# Altium schematic symbol library Base Board.SCHLIB: 27 symbols
Pins are listed as number, name and electrical type; pins without a type are passive.

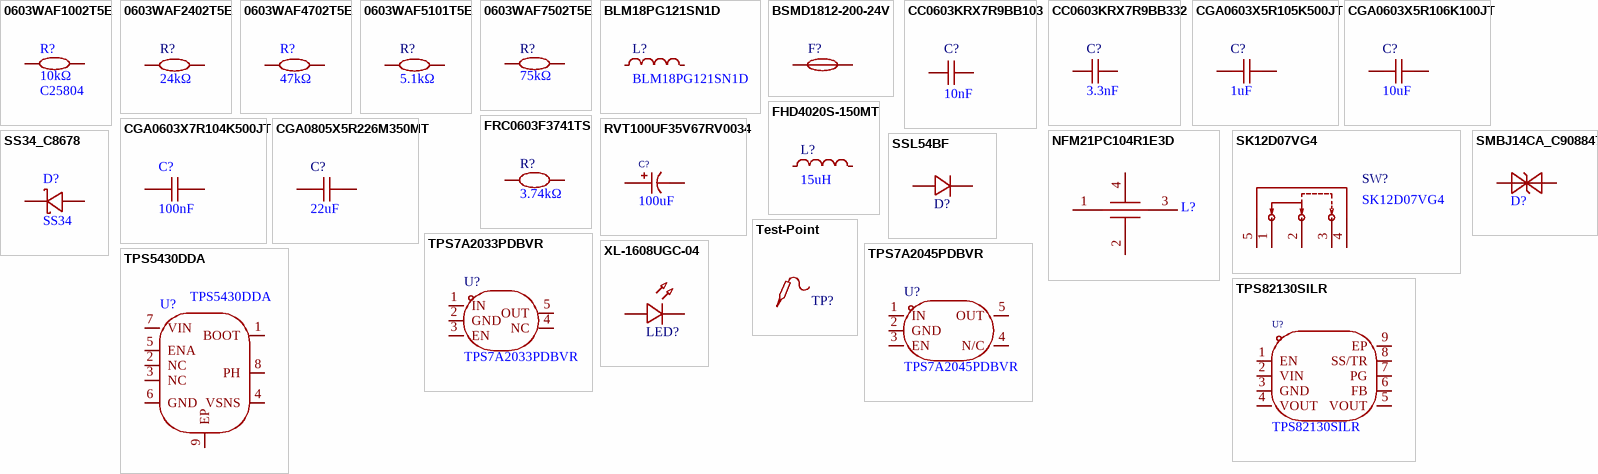
[diagram p0: symbols 0603WAF1002T5E to XL-1608UGC-04]

## 0603WAF1002T5E
designator R?, comment 10kΩ  Supplier Part: C25804
Manufacturer: UNI-ROYAL(厚声); Symbol: 电阻; Device: 0603WAF1002T5E; Add into BOM: yes; Tolerance: ±1%; Power(Watts): 100mW; Temperature Coefficient: ±100ppm/℃; Overload Voltage (Max): 75V; LCSC Part Name: 厚膜电阻 10kΩ ±1% 100mW; Manufacturer Part: 0603WAF1002T5E; Supplier Footprint: 0603; JLCPCB Part Class: Basic Part; Datasheet: https://atta.szlcsc.com/upload/public/pdf/source/20200306/C422600_1E6D84923E4A46A82E41ADD87F860B5C.pdf; Supplier: LCSC; Convert to PCB: yes; Type: 厚膜电阻; Value: 10kΩ; Operating Temperature Range: -55℃~+155℃
footprint R0603
3D model R0603
pins: 1, 2

## 0603WAF2402T5E
designator R?, comment 24kΩ
Manufacturer: UNI-ROYAL(厚声); Symbol: 0603WAF2402T5E; Add into BOM: yes; Tolerance: ±1%; Power(Watts): 100mW; Overload Voltage (Max): 75V; Temperature Coefficient: ±100ppm/℃; Device: 0603WAF2402T5E; Supplier: LCSC; Manufacturer Part: 0603WAF2402T5E; Supplier Part: C23352; Value: 24kΩ; JLCPCB Part Class: 基础库; LCSC Part Name: 24kΩ ±1% 100mW 厚膜电阻; Supplier Footprint: 0603; Datasheet: https://atta.szlcsc.com/upload/public/pdf/source/20200306/C422600_1E6D84923E4A46A82E41ADD87F860B5C.pdf; Convert to PCB: yes; Type: 厚膜电阻; Operating Temperature Range: -55℃~+155℃
footprint R0603
3D model R0603
pins: 1, 2

## 0603WAF4702T5E
designator R?, comment 47kΩ
Manufacturer: UNI-ROYAL(厚声); Symbol: 电阻; Device: 0603WAF4702T5E; Add into BOM: yes; Tolerance: ±1%; Power(Watts): 100mW; Overload Voltage (Max): 75V; Temperature Coefficient: ±100ppm/℃; LCSC Part Name: 47kΩ ±1% 100mW 厚膜电阻; Supplier Part: C25819; Manufacturer Part: 0603WAF4702T5E; Supplier Footprint: 0603; JLCPCB Part Class: Basic Part; Datasheet: https://atta.szlcsc.com/upload/public/pdf/source/20200306/C422600_1E6D84923E4A46A82E41ADD87F860B5C.pdf; Supplier: LCSC; Convert to PCB: yes; Type: 厚膜电阻; Value: 47kΩ; Operating Temperature Range: -55℃~+155℃
footprint R0603
3D model R0603
pins: 1, 2

## 0603WAF5101T5E
designator R?, comment 5.1kΩ
Manufacturer: UNI-ROYAL(厚声); Symbol: 0603WAF5101T5E; Add into BOM: yes; Tolerance: ±1%; Power(Watts): 100mW; Overload Voltage (Max): 75V; Temperature Coefficient: ±100ppm/℃; Device: 0603WAF5101T5E; LCSC Part Name: 5.1kΩ ±1% 100mW 厚膜电阻; Supplier Part: C23186; Manufacturer Part: 0603WAF5101T5E; Supplier Footprint: 0603; JLCPCB Part Class: 基础库; Datasheet: https://atta.szlcsc.com/upload/public/pdf/source/20200306/C422600_1E6D84923E4A46A82E41ADD87F860B5C.pdf; Supplier: LCSC; Convert to PCB: yes; Type: 厚膜电阻; Value: 5.1kΩ; Operating Temperature Range: -55℃~+155℃
footprint R0603
3D model R0603
pins: 1, 2

## 0603WAF7502T5E
designator R?, comment 75kΩ
Manufacturer: UNI-ROYAL(厚声); Symbol: 0603WAF7502T5E; Add into BOM: yes; Tolerance: ±1%; Power(Watts): 100mW; Overload Voltage (Max): 75V; Temperature Coefficient: ±100ppm/℃; Device: 0603WAF7502T5E; LCSC Part Name: 75kΩ ±1% 100mW 厚膜电阻; Supplier Part: C23242; Manufacturer Part: 0603WAF7502T5E; Supplier Footprint: 0603; JLCPCB Part Class: 基础库; Datasheet: https://atta.szlcsc.com/upload/public/pdf/source/20200306/C422600_1E6D84923E4A46A82E41ADD87F860B5C.pdf; Supplier: LCSC; Convert to PCB: yes; Type: 厚膜电阻; Value: 75kΩ; Operating Temperature Range: -55℃~+155℃
footprint R0603
3D model R0603
pins: 1, 2

## BLM18PG121SN1D
designator L?
Manufacturer: muRata(村田); Symbol: BLM18PG121SN1D_C14709; Add into BOM: yes; Impedance @ Frequency: 120Ω@100MHz; Tolerance: ±25%; DC Resistance: 50mΩ; Current Rating: 2A; Circuits: 1; Device: BLM18PG121SN1D; LCSC Part Name: 单路 0603磁珠 阻抗120Ω@100MHz; Supplier Part: C14709; Manufacturer Part: BLM18PG121SN1D; Supplier Footprint: 0603; JLCPCB Part Class: 扩展库; Datasheet: https://atta.szlcsc.com/upload/public/pdf/source/20130704/1457706621422.pdf; Supplier: LCSC; Convert to PCB: yes
footprint L0603
3D model L0603_L1.6-W0.8-H0.5_BEAD
pins: 1, 2

## BSMD1812-200-24V
designator F?  (value not drawn)
Manufacturer: BHFUSE(佰宏); Add into BOM: yes; Operating Voltage (Max): 24V; Current Rating (Max): 40A; Hold Current: 2A; Trip Current: 4A; Power Dissipation: 1W; Resistance - Initial (Ri) (Min): 20mΩ; Resistance - Post Trip (R1) (Max): 100mΩ; Maximum Time to Trip: 2s; Symbol: BSMD1812-200-24V; Device: BSMD1812-200-24V; Supplier: LCSC; Supplier Part: C883157; Manufacturer Part: BSMD1812-200-24V; JLCPCB Part Class: 扩展库; LCSC Part Name: 24V 2A 1812自恢复; Supplier Footprint: 1812; Datasheet: https://atta.szlcsc.com/upload/public/pdf/source/20230512/6ED7FF50F668B3AF958C55F12246A840.pdf; Convert to PCB: yes; Operating Temperature: -40℃~+85℃
footprint F1812
3D model F1812_L4.5-W3.2-H1.0
pins: 1, 2

## CC0603KRX7R9BB103
designator C?, comment 10nF
Manufacturer: YAGEO(国巨); Symbol: CC0603KRX7R9BB103; Add into BOM: yes; Tolerance: ±10%; Voltage Rated: 50V; Temperature Coefficient: X7R; Device: CC0603KRX7R9BB103; LCSC Part Name: 10nF ±10% 50V; Supplier Part: C100042; Manufacturer Part: CC0603KRX7R9BB103; Supplier Footprint: 0603; JLCPCB Part Class: Extended Part; Datasheet: https://atta.szlcsc.com/upload/public/pdf/source/20181008/C309510_22F155564471FAF6A489F7D68F34234E.pdf; Supplier: LCSC; Convert to PCB: yes; Value: 10nF
footprint C0603
3D model C0603_L1.6-W0.8-H0.8
pins: 1, 2

## CC0603KRX7R9BB332
designator C?, comment 3.3nF
Manufacturer: YAGEO(国巨); Symbol: CC0603KRX7R9BB332; Add into BOM: yes; Tolerance: ±10%; Voltage Rated: 50V; Temperature Coefficient: X7R; Device: CC0603KRX7R9BB332; LCSC Part Name: 3.3nF ±10% 50V; Supplier Part: C107088; Manufacturer Part: CC0603KRX7R9BB332; Supplier Footprint: 0603; JLCPCB Part Class: 扩展库; Datasheet: https://atta.szlcsc.com/upload/public/pdf/source/20180910/C282072_33301C7F631E79921B82A8DAC6BCC5B3.pdf; Supplier: LCSC; Convert to PCB: yes; Value: 3.3nF
footprint C0603
3D model C0603_L1.6-W0.8-H0.8
pins: 1, 2

## CGA0603X5R105K500JT
designator C?, comment 1uF
Manufacturer: HRE(芯声); Symbol: CGA0603X5R105K500JT; Add into BOM: yes; Tolerance: ±10%; Voltage Rated: 50V; Temperature Coefficient: X5R; Device: CGA0603X5R105K500JT; LCSC Part Name: 1uF ±10% 50V; Supplier Part: C6119852; Manufacturer Part: CGA0603X5R105K500JT; Supplier Footprint: 0603; JLCPCB Part Class: 扩展库; Supplier: LCSC; Convert to PCB: yes; Value: 1uF
footprint C0603
3D model C0603_L1.6-W0.8-H0.8
pins: 1, 2

## CGA0603X5R106K100JT
designator C?, comment 10uF
Manufacturer: HRE(芯声); Symbol: CGA0603X5R106K100JT; Add into BOM: yes; Tolerance: ±10%; Voltage Rating: 10V; Temperature Coefficient: X5R; Device: CGA0603X5R106K100JT; LCSC Part Name: 10uF ±10% 10V; Supplier Part: C6119842; Manufacturer Part: CGA0603X5R106K100JT; Supplier Footprint: 0603; JLCPCB Part Class: 扩展库; Supplier: LCSC; Convert to PCB: yes; Value: 10uF
footprint C0603
3D model C0603_L1.6-W0.8-H0.8
pins: 1, 2

## CGA0603X7R104K500JT
designator C?, comment 100nF
Manufacturer: HRE(芯声); Symbol: CapAcitance; Device: CGA0603X7R104K500JT; Add into BOM: yes; Tolerance: ±10%; Voltage Rated: 50V; Temperature Coefficient: X7R; LCSC Part Name: 100nF ±10% 50V; Supplier Part: C6119867; Manufacturer Part: CGA0603X7R104K500JT; Supplier Footprint: 0603; JLCPCB Part Class: Extended Part; Datasheet: https://atta.szlcsc.com/upload/public/pdf/source/20250103/C44077DA9E7B3EFAE02F22B6D3D1CBC9.pdf; Supplier: LCSC; Convert to PCB: yes; Value: 100nF; Voltage Rating: 50V
footprint C0603
3D model C0603_L1.6-W0.8-H0.8
pins: 1, 2

## CGA0805X5R226M350MT
designator C?, comment 22uF
Manufacturer: HRE(芯声); Symbol: CGA0805X5R226M350MT; Add into BOM: yes; Tolerance: ±20%; Voltage Rated: 35V; Temperature Coefficient: X5R; Device: CGA0805X5R226M350MT; LCSC Part Name: 22uF ±20% 35V; Supplier Part: C6119901; Manufacturer Part: CGA0805X5R226M350MT; Supplier Footprint: 0805; JLCPCB Part Class: 扩展库; Datasheet: https://atta.szlcsc.com/upload/public/pdf/source/20231129/D589D0CC4D260F7AC3A77E53B455CCB3.pdf; Supplier: LCSC; Convert to PCB: yes; Value: 22uF
footprint C0805
3D model C0805_L2.0-W1.3-H1.3
pins: 1, 2

## FHD4020S-150MT
designator L?, comment 15uH
Manufacturer: cjiang(长江微电); Symbol: FHD4020S-150MT; Add into BOM: yes; Tolerance: ±20%; Current Rating: 1.2A; Current - Saturation(Isat): 2.8A; DC Resistance(DCR): 305mΩ; Type: 绕线电感; Device: FHD4020S-150MT; LCSC Part Name: 15uH ±20% 2.8A; Supplier Part: C602033; Manufacturer Part: FHD4020S-150MT; Supplier Footprint: SMD,4x4mm; JLCPCB Part Class: 扩展库; Datasheet: https://atta.szlcsc.com/upload/public/pdf/source/20200609/C601990_BCEA243EC4DA0A9A288AA78A6DFB48A5.pdf; Supplier: LCSC; Convert to PCB: yes; Value: 15uH
footprint IND-SMD_L4.0-W4.0
3D model IND-SMD_L4.0-W4.0-H1.9
pins: 1, 2

## FRC0603F3741TS
designator R?, comment 3.74kΩ
Manufacturer: FOJAN(富捷); Symbol: FRC0603F3741TS; Add into BOM: yes; Tolerance: ±1%; Power(Watts): 100mW; Overload Voltage (Max): 75V; Temperature Coefficient: ±100ppm/℃; Device: FRC0603F3741TS; LCSC Part Name: 3.74kΩ ±1% 100mW 厚膜电阻; Supplier Part: C2933210; Manufacturer Part: FRC0603F3741TS; Supplier Footprint: 0603; JLCPCB Part Class: 扩展库; Datasheet: https://atta.szlcsc.com/upload/public/pdf/source/20211221/925EC7D7225764EE0046F22065062C87.pdf; Supplier: LCSC; Convert to PCB: yes; Type: 厚膜电阻; Value: 3.74kΩ; Operating Temperature Range: -55℃~+155℃
footprint R0603
3D model R0603
pins: 1, 2

## NFM21PC104R1E3D
designator L?  (value not drawn)
Manufacturer: muRata(村田); Add into BOM: yes; Nominal Capacitance: 100nF; CapacitanceTolerance: ±20%; DC Rated Voltage: 25V; Rated Current: 2A; DC Resistance: 30mΩ; Symbol: NFM21PC104R1E3D; Device: NFM21PC104R1E3D; LCSC Part Name: 100nF(104) ±20% 25V; Supplier Part: C86150; Manufacturer Part: NFM21PC104R1E3D; Supplier Footprint: 0805; JLCPCB Part Class: 扩展库; Datasheet: https://atta.szlcsc.com/upload/public/pdf/source/20180326/C86150_E4B7366323682FA84DED9003C68CA797.pdf; Supplier: LCSC; Convert to PCB: yes; Operating Temperature: -55℃~+125℃
footprint CAP-SMD_4P-L2.0-W1.25
3D model CAP-SMD_4P-L2.0-W1.3-H0.9
pins: 1 IN, 2 GND, 3 OUT, 4 GND

## RVT100UF35V67RV0034
designator C?, comment 100uF
Manufacturer: KNSCHA(科尼盛); Symbol: RVT100UF35V67RV0034; Add into BOM: yes; Rated Voltage: 35V; Lifetime @ Temp: 2000hrs@105℃; Device: RVT100UF35V67RV0034; Supplier: LCSC; Supplier Part: C2836442; Manufacturer Part: RVT100UF35V67RV0034; Capacitance: 100uF; LCSC Part Name: 100uF 35V; Supplier Footprint: SMD,6.3x7.7mm; Convert to PCB: yes; Value: 100uF; φD: -; L: -; Ripple Current: -; Equivalent Series Resistance(ESR): -
footprint CAP-SMD_BD6.3-L6.6-W6.6-LS7.4-FD
3D model CAP-SMD_BD6.3-L6.6-W6.6-LS7.4-FD
pins: 1, 2

## SK12D07VG4
designator SW?
Manufacturer: SHOU HAN(首韩); Add into BOM: yes; Circuit: 单刀双掷; Actuator Style: 矩形柱状; Pin Style: PC引脚; Switch Height: 8.8mm; Current Rating (DC): 500mA; Voltage Rating (DC): 50V; Mechanical Life: 5千次; Symbol: SK12D07VG4; Device: SK12D07VG4; LCSC Part Name: 3脚2档位 卧插 滑动开关; Supplier Part: C393937; Manufacturer Part: SK12D07VG4; Supplier Footprint: 插件; JLCPCB Part Class: 扩展库; Datasheet: https://atta.szlcsc.com/upload/public/pdf/source/20190521/C393937_939FE26E571CC67D2D532E953108A1B0.pdf; Supplier: LCSC; Convert to PCB: yes; Mounting Style: -; Current Rating (AC): -; Voltage Rating (AC): -; Operating Temperature: -
footprint SW-TH_SK12D07VG4
3D model SW-TH_L8.7-W4.4-H4.0-P2.0
pins: 1, 2, 3, 4, 5

## SMBJ14CA_C908847
designator D?, comment SMBJ14CA  (value not drawn)
Manufacturer: GOODWORK(固得沃克); Symbol: SMBJ14CA_C908847; Add into BOM: yes; Polarity: 双向; Reverse Stand-Off Voltage (Vrwm): 14V; Breakdown Voltage (Min): 15.6V; Breakdown Voltage (Max): 17.9V; Reverse Leakage Current (Ir): 5μA; Peak Pulse Current (Ipp)@10/1000μs: 25.8A; Maximum Clamping Voltage: 23.2V; Device: SMBJ14CA_C908847; LCSC Part Name: 双向 Vrwm:14V; Supplier Part: C908847; Manufacturer Part: SMBJ14CA; Supplier Footprint: SMB; JLCPCB Part Class: 扩展库; Datasheet: https://atta.szlcsc.com/upload/public/pdf/source/20201231/C908783_5F0AE07776753216FC0A4122EEBBB8E2.pdf; Supplier: LCSC; Convert to PCB: yes
footprint SMB_L4.5-W3.6-LS5.3-BI
3D model SMB_L4.5-W3.6-LS5.3-BI
pins: 1, 2

## SS34_C8678
designator D?, comment SS34
Manufacturer: MDD; Symbol: SS34_C8678; Add into BOM: yes; Diode Configuration: 独立式; Reverse Voltage (Vr): 40V; Average Rectified Current (Io): 3A; Forward Voltage (Vf@If): 550mV@3A; Reverse Leakage Current (Ir): 500uA@40V; Device: SS34_C8678; LCSC Part Name: 40V 3A 550mV@3A; Supplier Part: C8678; Manufacturer Part: SS34; Supplier Footprint: SMA(DO-214AC); JLCPCB Part Class: Basic Part; Datasheet: https://atta.szlcsc.com/upload/public/pdf/source/20230314/A80AE34493C69B89E2F4B1712F433538.pdf; Supplier: LCSC; Convert to PCB: yes
footprint SMA_L4.3-W2.6-LS5.2-RD
3D model SMA_L4.3-W2.6-LS5.2-RD
pins: 1 K, 2 A

## SSL54BF
designator D?  (value not drawn)
Manufacturer: 晶导微电子; Add into BOM: yes; Reverse Voltage (Vr): 40V; Average Rectified Current (Io): 5A; Forward Voltage (Vf@If): 450mV@5A; Reverse Leakage Current (Ir): 1mA@40V; Peak forward surge current: 150A; Symbol: SSL54BF; Device: SSL54BF; Supplier: LCSC; Supplier Part: C116130; Manufacturer Part: SSL54BF; JLCPCB Part Class: 扩展库; LCSC Part Name: 电压:40V 电流:5A; Supplier Footprint: SMBF; Datasheet: https://atta.szlcsc.com/upload/public/pdf/source/20180620/C116130_E569A904505A924250F94391221EA411.pdf; Convert to PCB: yes
footprint SMBF_L4.3-W3.6-LS5.3-RD
3D model SMBF_L4.3-W3.6-LS5.3-RD
pins: 1, 2

## Test-Point
designator TP?
Symbol: Test-Point; Add into BOM: yes; Device: Test-Point; Convert to PCB: yes
footprint Test-Point-0.5mm
pins: 1

## TPS7A2033PDBVR
designator U?
Manufacturer: TI(德州仪器); Add into BOM: yes; Output Type: 固定; Maximum Input Voltage: 6V; Output Voltage: 3.3V; MAX Output Current: 300mA; Dropout Voltage: 140mV@(300mA); standby current: 15uA; Output Polarity: 正极; Number of Outputs: 1; Symbol: TPS7A2033PDBVR; Device: TPS7A2033PDBVR; LCSC Part Name: 具有高 PSRR 的 300mA、超低噪声、低 IQ、低压降 (LDO) 线性稳压器; Supplier Part: C2862740; Manufacturer Part: TPS7A2033PDBVR; Supplier Footprint: SOT-23-5; JLCPCB Part Class: Extended Part; Datasheet: https://www.ti.com/cn/lit/gpn/tps7a20; Supplier: LCSC; Convert to PCB: yes; Operating Temperature: -40℃~+125℃@(Tj); Output Current: 300mA; Feature: 防静电保护；软启动；浪涌保护；低ESR；热保护(TSD)；欠压闭锁；过流保护(OCP)；带使能；防倒灌
footprint SOT-23-5_L2.9-W1.6-P0.95-LS2.8-BR
3D model SOT-23-5_L2.9-W1.6-P0.95-LS2.8-BR
pins: 1 IN, 2 GND, 3 EN, 4 NC, 5 OUT

## TPS7A2045PDBVR
designator U?
Manufacturer: TI(德州仪器); Add into BOM: yes; Output Type: 固定; Maximum Input Voltage: 6V; Output Voltage: 4.5V; Output Current: 300mA; Dropout Voltage: 145mV@(300mA); standby current: 15uA; Output Polarity: 正极; Number of Outputs: 1; Symbol: TPS7A2045PDBVR; Device: TPS7A2045PDBVR; LCSC Part Name: 具有高 PSRR 的 300mA、超低噪声、低 IQ、低压降 (LDO) 线性稳压器; Supplier Part: C2873627; Manufacturer Part: TPS7A2045PDBVR; Supplier Footprint: SOT-23-5; JLCPCB Part Class: 扩展库; Datasheet: https://www.ti.com/cn/lit/gpn/tps7a20; Supplier: LCSC; Convert to PCB: yes; Feature: 防静电保护；软启动；浪涌保护；低ESR；热保护(TSD)；欠压闭锁；过流保护(OCP)；带使能；防倒灌; Operating Temperature: -40℃~+125℃@(Tj)
footprint SOT-23-5_L2.9-W1.6-P0.95-LS2.8-BR
3D model SOT-23-5_L2.9-W1.6-P0.95-LS2.8-BR
pins: 1 IN, 2 GND, 3 EN, 4 N/C, 5 OUT

## TPS5430DDA
designator U?
Manufacturer: TI(德州仪器); Add into BOM: yes; Function: 降压型; Synchronous Rectification: 否; Output Type: 可调; Number of Outputs: 1; Topology: 降压式; Input Voltage: 5.5V~36V; Output Voltage: 1.221V~32.04V; Output Current (Max): 3A; Switching Frequency: 500kHz; Symbol: TPS5430DDA; Device: TPS5430DDA; LCSC Part Name: 降压型 Vin=5.5V~36V Vout=1.221V~32.04V 3A; Supplier Part: C502477; Manufacturer Part: TPS5430DDA; Supplier Footprint: ESOP-8; JLCPCB Part Class: Extended Part; Datasheet: https://atta.szlcsc.com/upload/public/pdf/source/20200402/C502477_C195E9F29489A337252CB245AFB38C93.pdf; Supplier: LCSC; Convert to PCB: yes; Operating Temperature: -40℃~+125℃@(TJ)
footprint ESOP-8_L4.9-W3.9-P1.27-LS6.0-BL-EP-2
3D model ESOP-8_L4.9-W3.9-P1.27-LS6.0-BL-EP-2
pins: 1 BOOT, 2 NC, 3 NC, 4 VSNS, 5 ENA, 6 GND, 7 VIN, 8 PH, 9 EP

## TPS82130SILR
designator U?
Manufacturer: TI(德州仪器); Add into BOM: yes; Output Channel: 1; Input Voltage(DC): 3V~17V; Output Voltage: 900mV~6V; Output Current (Max): 3A; Symbol: TPS82130SILR; Device: TPS82130SILR; Supplier: LCSC; Supplier Part: C473914; Manufacturer Part: TPS82130SILR; JLCPCB Part Class: 扩展库; LCSC Part Name: TPS82130SILR; Supplier Footprint: USIP-8; Datasheet: https://www.ti.com/cn/lit/gpn/tps82130; Convert to PCB: yes; Function: -
footprint USIP-8_L3.0-W2.8-P0.65-TL-EP
3D model USIP-8_L3.0-W2.8-P0.65-TL-EP
pins: 1 EN, 2 VIN, 3 GND, 4 VOUT, 5 VOUT, 6 FB, 7 PG, 8 SS/TR, 9 EP

## XL-1608UGC-04
designator LED?  (value not drawn)
Manufacturer: XINGLIGHT(成兴光); Symbol: LED_G; Convert to PCB: yes; Emitted Color: 翠绿色; Forward Voltage (VF): 3.3V; Power Dissipation: 80mW; Forward Current: 25mA; Dominant Wavelength: 516nm~525nm; Peak Wavelength: 534nm; Lens Color: 无色透明透镜; Luminous Intensity: 199mcd; Viewing Angle: 120°; Mounting Sytle: 正贴; Device: XL-1608UGC-04; Add into BOM: yes; Supplier Footprint: 0603; LCSC Part Name: XL-1608UGC-04; Supplier Part: C965804; Manufacturer Part: XL-1608UGC-04; JLCPCB Part Class: Extended Part; Datasheet: https://atta.szlcsc.com/upload/public/pdf/source/20221102/520D6E465E5CFD1609C8A4DBC80D4018.pdf; Supplier: LCSC; Lamp Holder Type: -; Diode Configuration: -; Color Temperature: -; Operating Temperature: -30℃~+85℃
footprint LED0603-RD_GREEN
3D model LED0603-RD_GREEN
pins: 1 C, 2 A